# Altium footprint library WP-RAFE.PcbLib: 10 footprints
Each footprint in its own frame and in the unit in brackets; x right, y up, seen from the top. Pads: shape width x height; smd on the part's side, far side on the other; paste and mask are expansions set on the pad; w line width, h text height; cw(c..) or ccw(c..) is an arc to the next point about the centre after c.
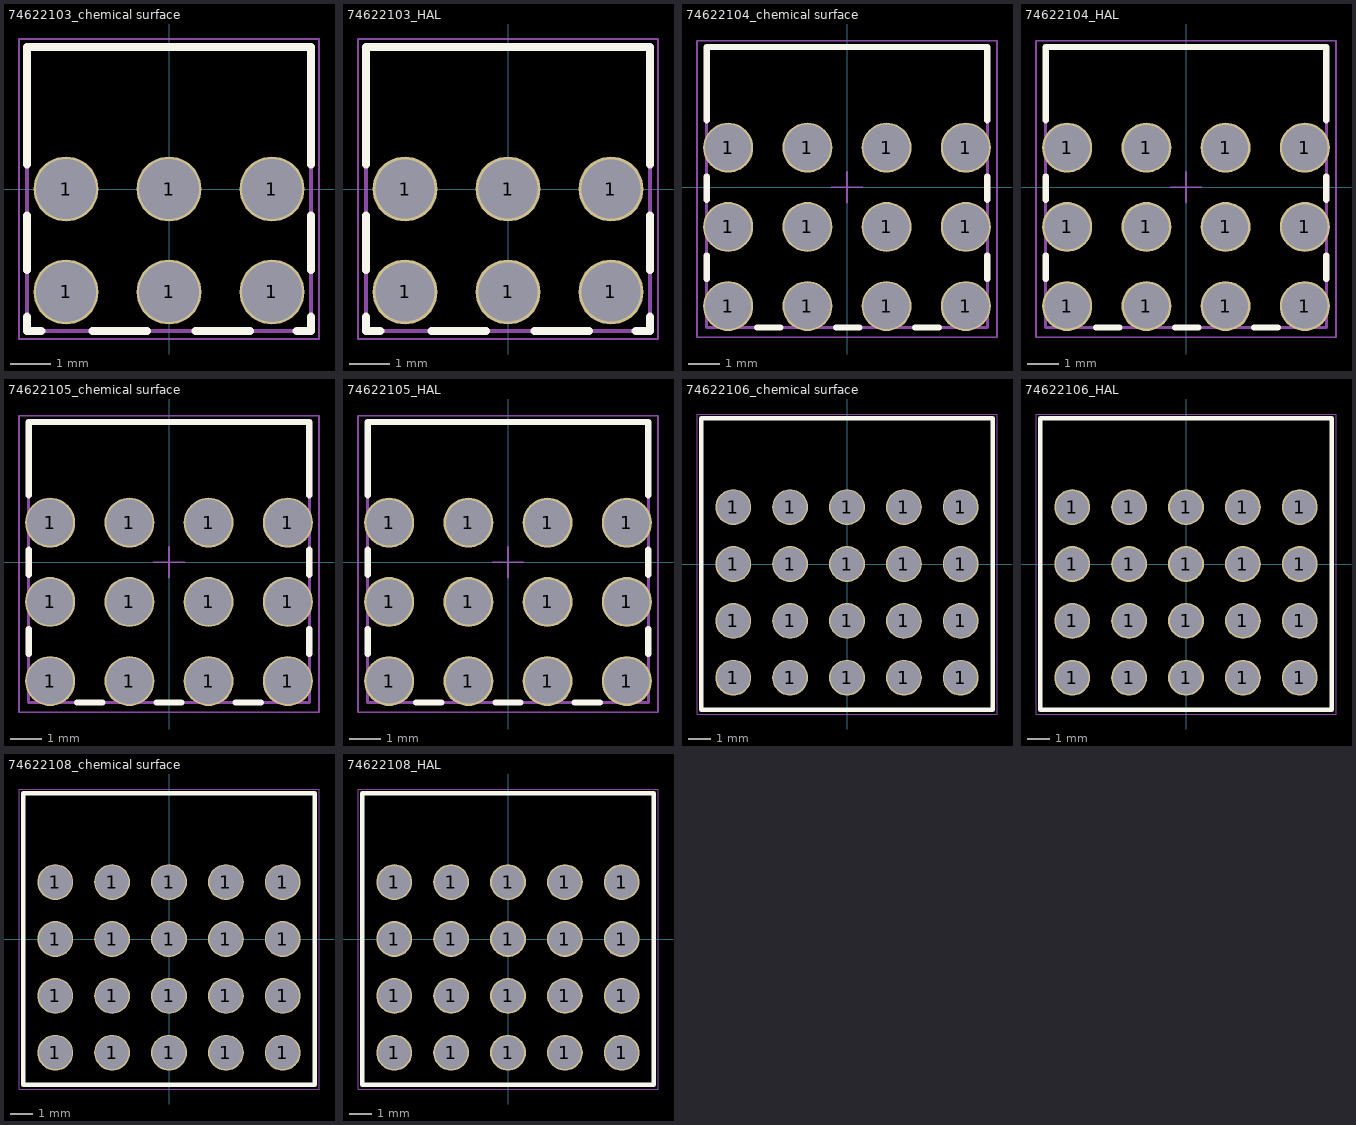
[diagram p0: the footprints below, top view; thin cyan lines are the x and y axes]

## 74622103_chemical surface [mm] "REDCUBE PRESS-FIT, body 7 x 7 mm"
height 14
pads (6):
  round 1.6 hole 1.475: 1(-2.54,-2.54) 1(-2.54,0) 1(0,-2.54) 1(0,0) 1(2.54,-2.54) 1(2.54,0)
Top Overlay:
  lines w0.2: -3.5,-3.15 -3.5,-3.5 -3.15,-3.5 ; -3.5,-2 -3.5,-0.65 ; -3.5,0.6 -3.5,3.5 3.5,3.5 3.5,0.6 ; -1.89,-3.5 -0.54,-3.5 ; 0.65,-3.5 2,-3.5 ; 3.15,-3.5 3.5,-3.5 3.5,-3.15 ; 3.5,-2 3.5,-0.65
Top Designator:
  text ".Designator" at -7.498,-0.5 h1.5
Top Component Outline:
  lines w0.1: -3.5,-3.5 -3.5,3.5 3.5,3.5 3.5,-3.5 -3.5,-3.5
Top Courtyard:
  lines w0.05: -3.7,-3.7 -3.7,3.7 3.7,3.7 3.7,-3.7 -3.7,-3.7
Top Component Center:
  lines w0.05: -0.5,0 0.5,0 ; 0,-0.5 0,0.5
3D body "74622103.stp": height 14, standoff -3.5, extent -3.5,-3.5 3.5,3.5

## 74622103_HAL [mm] "74622103_chemical surface"
height 14
pads (6):
  round 1.6 hole 1.45: 1(-2.54,-2.54) 1(-2.54,0) 1(0,-2.54) 1(0,0) 1(2.54,-2.54) 1(2.54,0)
Top Overlay:
  lines w0.2: -3.5,-3.15 -3.5,-3.5 -3.15,-3.5 ; -3.5,-2 -3.5,-0.65 ; -3.5,0.6 -3.5,3.5 3.5,3.5 3.5,0.6 ; -1.89,-3.5 -0.54,-3.5 ; 0.65,-3.5 2,-3.5 ; 3.15,-3.5 3.5,-3.5 3.5,-3.15 ; 3.5,-2 3.5,-0.65
Top Designator:
  text ".Designator" at -7.498,-0.5 h1.5
Top Component Outline:
  lines w0.1: -3.5,-3.5 3.5,-3.5 3.5,3.5 -3.5,3.5 -3.5,-3.5
Top Courtyard:
  lines w0.05: -3.7,-3.7 -3.7,3.7 3.7,3.7 3.7,-3.7 -3.7,-3.7
Top Component Center:
  lines w0.05: -0.5,0 0.5,0 ; 0,-0.5 0,0.5
3D body "74622103.stp": height 14, standoff -3.5, extent -3.5,-3.5 3.5,3.5

## 74622104_chemical surface [mm] "REDCUBE PRESS-FIT, body 9 x 9 mm"
height 14
pads (12):
  round 1.6 hole 1.475: 1(-3.81,-3.81) 1(-3.81,-1.27) 1(-3.81,1.27) 1(-1.27,-3.81) 1(-1.27,-1.27) 1(-1.27,1.27) 1(1.27,-3.81) 1(1.27,-1.27) 1(1.27,1.27) 1(3.81,-3.81) 1(3.81,-1.27) 1(3.81,1.27)
Top Overlay:
  lines w0.2: -4.5,-2.94 -4.5,-2.19 ; -4.5,-0.4 -4.5,0.35 ; -4.5,2.15 -4.5,4.5 4.5,4.5 4.5,2.15 ; -2.89,-4.5 -2.14,-4.5 ; -0.35,-4.5 0.4,-4.5 ; 2.19,-4.5 2.94,-4.5 ; 4.5,-2.94 4.5,-2.19 ; 4.5,-0.4 4.5,0.35
Top Designator:
  text ".Designator" at -7.498,-0.5 h1.5
Top Component Outline:
  lines w0.1: -4.5,-4.5 4.5,-4.5 4.5,4.5 -4.5,4.5 -4.5,-4.5
Top Courtyard:
  lines w0.05: -4.81,-4.81 -4.81,4.7 4.81,4.7 4.81,-4.81 -4.81,-4.81
Top Component Center:
  lines w0.05: -0.5,0 0.5,0 ; 0,-0.5 0,0.5
3D body "74622104.stp": height 14, standoff -3.5, extent -4.5,-4.5 4.5,4.5

## 74622104_HAL [mm] "REDCUBE PRESS-FIT, body 9 x 9 mm"
height 14
pads (12):
  round 1.6 hole 1.45: 1(-3.81,-3.81) 1(-3.81,-1.27) 1(-3.81,1.27) 1(-1.27,-3.81) 1(-1.27,-1.27) 1(-1.27,1.27) 1(1.27,-3.81) 1(1.27,-1.27) 1(1.27,1.27) 1(3.81,-3.81) 1(3.81,-1.27) 1(3.81,1.27)
Top Overlay:
  lines w0.2: -4.5,-2.94 -4.5,-2.19 ; -4.5,-0.4 -4.5,0.35 ; -4.5,2.15 -4.5,4.5 4.5,4.5 4.5,2.15 ; -2.89,-4.5 -2.14,-4.5 ; -0.35,-4.5 0.4,-4.5 ; 2.19,-4.5 2.94,-4.5 ; 4.5,-2.94 4.5,-2.19 ; 4.5,-0.4 4.5,0.35
Top Designator:
  text ".Designator" at -7.498,-0.5 h1.5
Top Component Outline:
  lines w0.1: -4.5,-4.5 -4.5,4.5 4.5,4.5 4.5,-4.5 -4.5,-4.5
Top Courtyard:
  lines w0.05: -4.81,-4.81 4.81,-4.81 4.81,4.7 -4.81,4.7 -4.81,-4.81
Top Component Center:
  lines w0.05: -0.5,0 0.5,0 ; 0,-0.5 0,0.5
3D body "74622104.stp": height 14, standoff -3.5, extent -4.5,-4.5 4.5,4.5

## 74622105_chemical surface [mm] "REDCUBE PRESS-FIT, body 9 x 9 mm"
height 14
pads (12):
  round 1.6 hole 1.475: 1(-3.81,-3.81) 1(-3.81,-1.27) 1(-3.81,1.27) 1(-1.27,-3.81) 1(-1.27,-1.27) 1(-1.27,1.27) 1(1.27,-3.81) 1(1.27,-1.27) 1(1.27,1.27) 1(3.81,-3.81) 1(3.81,-1.27) 1(3.81,1.27)
Top Overlay:
  lines w0.2: -4.5,-2.94 -4.5,-2.14 ; -4.5,-0.4 -4.5,0.4 ; -4.5,2.15 -4.5,4.5 4.5,4.5 4.5,2.15 ; -2.94,-4.5 -2.14,-4.5 ; -0.4,-4.5 0.4,-4.5 ; 2.14,-4.5 2.94,-4.5 ; 4.5,-2.94 4.5,-2.14 ; 4.5,-0.4 4.5,0.4
Top Designator:
  text ".Designator" at -7.498,-0.5 h1.5
Top Component Outline:
  lines w0.1: -4.5,-4.5 -4.5,4.5 4.5,4.5 4.5,-4.5 -4.5,-4.5
Top Courtyard:
  lines w0.05: -4.81,-4.81 4.81,-4.81 4.81,4.7 -4.81,4.7 -4.81,-4.81
Top Component Center:
  lines w0.05: -0.5,0 0.5,0 ; 0,-0.5 0,0.5
3D body "74622105.stp": height 14, standoff -3.5, extent -4.5,-4.5 4.5,4.5

## 74622105_HAL [mm] "REDCUBE PRESS-FIT, body 9 x 9 mm"
height 14
pads (12):
  round 1.6 hole 1.45: 1(-3.81,-3.81) 1(-3.81,-1.27) 1(-3.81,1.27) 1(-1.27,-3.81) 1(-1.27,-1.27) 1(-1.27,1.27) 1(1.27,-3.81) 1(1.27,-1.27) 1(1.27,1.27) 1(3.81,-3.81) 1(3.81,-1.27) 1(3.81,1.27)
Top Overlay:
  lines w0.2: -4.5,-2.94 -4.5,-2.14 ; -4.5,-0.4 -4.5,0.4 ; -4.5,2.15 -4.5,4.5 4.5,4.5 4.5,2.15 ; -2.94,-4.5 -2.14,-4.5 ; -0.4,-4.5 0.4,-4.5 ; 2.14,-4.5 2.94,-4.5 ; 4.5,-2.94 4.5,-2.14 ; 4.5,-0.4 4.5,0.4
Top Designator:
  text ".Designator" at -7.498,-0.5 h1.5
Top Component Outline:
  lines w0.1: -4.5,-4.5 4.5,-4.5 4.5,4.5 -4.5,4.5 -4.5,-4.5
Top Courtyard:
  lines w0.05: -4.81,-4.81 -4.81,4.7 4.81,4.7 4.81,-4.81 -4.81,-4.81
Top Component Center:
  lines w0.05: -0.5,0 0.5,0 ; 0,-0.5 0,0.5
3D body "74622105.stp": height 14, standoff -3.5, extent -4.5,-4.5 4.5,4.5

## 74622106_chemical surface [mm] "REDCUBE PRESS-FIT, body 13 x 13 mm"
height 20
pads (20):
  round 1.6 hole 1.475: 1(-5.08,-5.08) 1(-5.08,-2.54) 1(-5.08,0) 1(-5.08,2.54) 1(-2.54,-5.08) 1(-2.54,-2.54) 1(-2.54,0) 1(-2.54,2.54) 1(0,-5.08) 1(0,-2.54) 1(0,0) 1(0,2.54) 1(2.54,-5.08) 1(2.54,-2.54) 1(2.54,0) 1(2.54,2.54) 1(5.08,-5.08) 1(5.08,-2.54) 1(5.08,0) 1(5.08,2.54)
Top Overlay:
  lines w0.2: -6.5,-6.5 -6.5,6.5 6.5,6.5 6.5,-6.5 -6.5,-6.5
Top Designator:
  text ".Designator" at -7.498,-0.5 h1.5
Top Component Outline:
  lines w0.1: -6.5,-6.5 -6.5,6.5 6.5,6.5 6.5,-6.5 -6.5,-6.5
Top Courtyard:
  lines w0.05: -6.7,-6.7 -6.7,6.7 6.7,6.7 6.7,-6.7 -6.7,-6.7
Top Component Center:
  lines w0.05: -0.5,0 0.5,0 ; 0,-0.5 0,0.5
3D body "74622106.stp": height 20, standoff -3.5, extent -6.5,-6.5 6.5,6.5

## 74622106_HAL [mm] "REDCUBE PRESS-FIT, body 13 x 13 mm"
height 20
pads (20):
  round 1.6 hole 1.45: 1(-5.08,-5.08) 1(-5.08,-2.54) 1(-5.08,0) 1(-5.08,2.54) 1(-2.54,-5.08) 1(-2.54,-2.54) 1(-2.54,0) 1(-2.54,2.54) 1(0,-5.08) 1(0,-2.54) 1(0,0) 1(0,2.54) 1(2.54,-5.08) 1(2.54,-2.54) 1(2.54,0) 1(2.54,2.54) 1(5.08,-5.08) 1(5.08,-2.54) 1(5.08,0) 1(5.08,2.54)
Top Overlay:
  lines w0.2: -6.5,-6.5 6.5,-6.5 6.5,6.5 -6.5,6.5 -6.5,-6.5
Top Designator:
  text ".Designator" at -7.498,-0.5 h1.5
Top Component Outline:
  lines w0.1: -6.5,-6.5 6.5,-6.5 6.5,6.5 -6.5,6.5 -6.5,-6.5
Top Courtyard:
  lines w0.05: -6.7,-6.7 6.7,-6.7 6.7,6.7 -6.7,6.7 -6.7,-6.7
Top Component Center:
  lines w0.05: -0.5,0 0.5,0 ; 0,-0.5 0,0.5
3D body "74622106.stp": height 20, standoff -3.5, extent -6.5,-6.5 6.5,6.5

## 74622108_chemical surface [mm] "REDCUBE PRESS-FIT, body 13 x 13 mm"
height 20
pads (20):
  round 1.6 hole 1.475: 1(-5.08,-5.08) 1(-5.08,-2.54) 1(-5.08,0) 1(-5.08,2.54) 1(-2.54,-5.08) 1(-2.54,-2.54) 1(-2.54,0) 1(-2.54,2.54) 1(0,-5.08) 1(0,-2.54) 1(0,0) 1(0,2.54) 1(2.54,-5.08) 1(2.54,-2.54) 1(2.54,0) 1(2.54,2.54) 1(5.08,-5.08) 1(5.08,-2.54) 1(5.08,0) 1(5.08,2.54)
Top Overlay:
  lines w0.2: -6.5,-6.5 6.5,-6.5 6.5,6.5 -6.5,6.5 -6.5,-6.5
Top Designator:
  text ".Designator" at -7.498,-0.5 h1.5
Top Component Outline:
  lines w0.1: -6.5,-6.5 6.5,-6.5 6.5,6.5 -6.5,6.5 -6.5,-6.5
Top Courtyard:
  lines w0.05: -6.7,-6.7 6.7,-6.7 6.7,6.7 -6.7,6.7 -6.7,-6.7
Top Component Center:
  lines w0.05: -0.5,0 0.5,0 ; 0,-0.5 0,0.5
3D body "74622108.stp": height 20, standoff -3.5, extent -6.5,-6.5 6.5,6.5

## 74622108_HAL [mm] "REDCUBE PRESS-FIT, body 13 x 13 mm"
height 20
pads (20):
  round 1.6 hole 1.45: 1(-5.08,-5.08) 1(-5.08,-2.54) 1(-5.08,0) 1(-5.08,2.54) 1(-2.54,-5.08) 1(-2.54,-2.54) 1(-2.54,0) 1(-2.54,2.54) 1(0,-5.08) 1(0,-2.54) 1(0,0) 1(0,2.54) 1(2.54,-5.08) 1(2.54,-2.54) 1(2.54,0) 1(2.54,2.54) 1(5.08,-5.08) 1(5.08,-2.54) 1(5.08,0) 1(5.08,2.54)
Top Overlay:
  lines w0.2: -6.5,-6.5 6.5,-6.5 6.5,6.5 -6.5,6.5 -6.5,-6.5
Top Designator:
  text ".Designator" at -7.498,-0.5 h1.5
Top Component Outline:
  lines w0.1: -6.5,-6.5 6.5,-6.5 6.5,6.5 -6.5,6.5 -6.5,-6.5
Top Courtyard:
  lines w0.05: -6.7,-6.7 6.7,-6.7 6.7,6.7 -6.7,6.7 -6.7,-6.7
Top Component Center:
  lines w0.05: -0.5,0 0.5,0 ; 0,-0.5 0,0.5
3D body "74622108.stp": height 20, standoff -3.5, extent -6.5,-6.5 6.5,6.5